# Altium schematic symbol library AD623.SchLib: 1 symbol
Pins are listed as number, name and electrical type; pins without a type are passive.

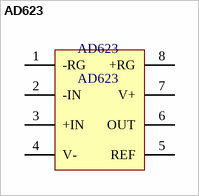
[diagram p0: symbol AD623]

## AD623
designator AD623
footprint AD623 (SOIC, 8-Leads, Body 5.0x4.0mm (max), Pitch 1.27mm, IPC Medium Density)
pins: 1 -RG, 2 -IN, 3 +IN, 4 V-, 5 REF, 6 OUT, 7 V+, 8 +RG